# EAGLE library part RTL8201FL-VB-CG (library circuit_tree)
IC
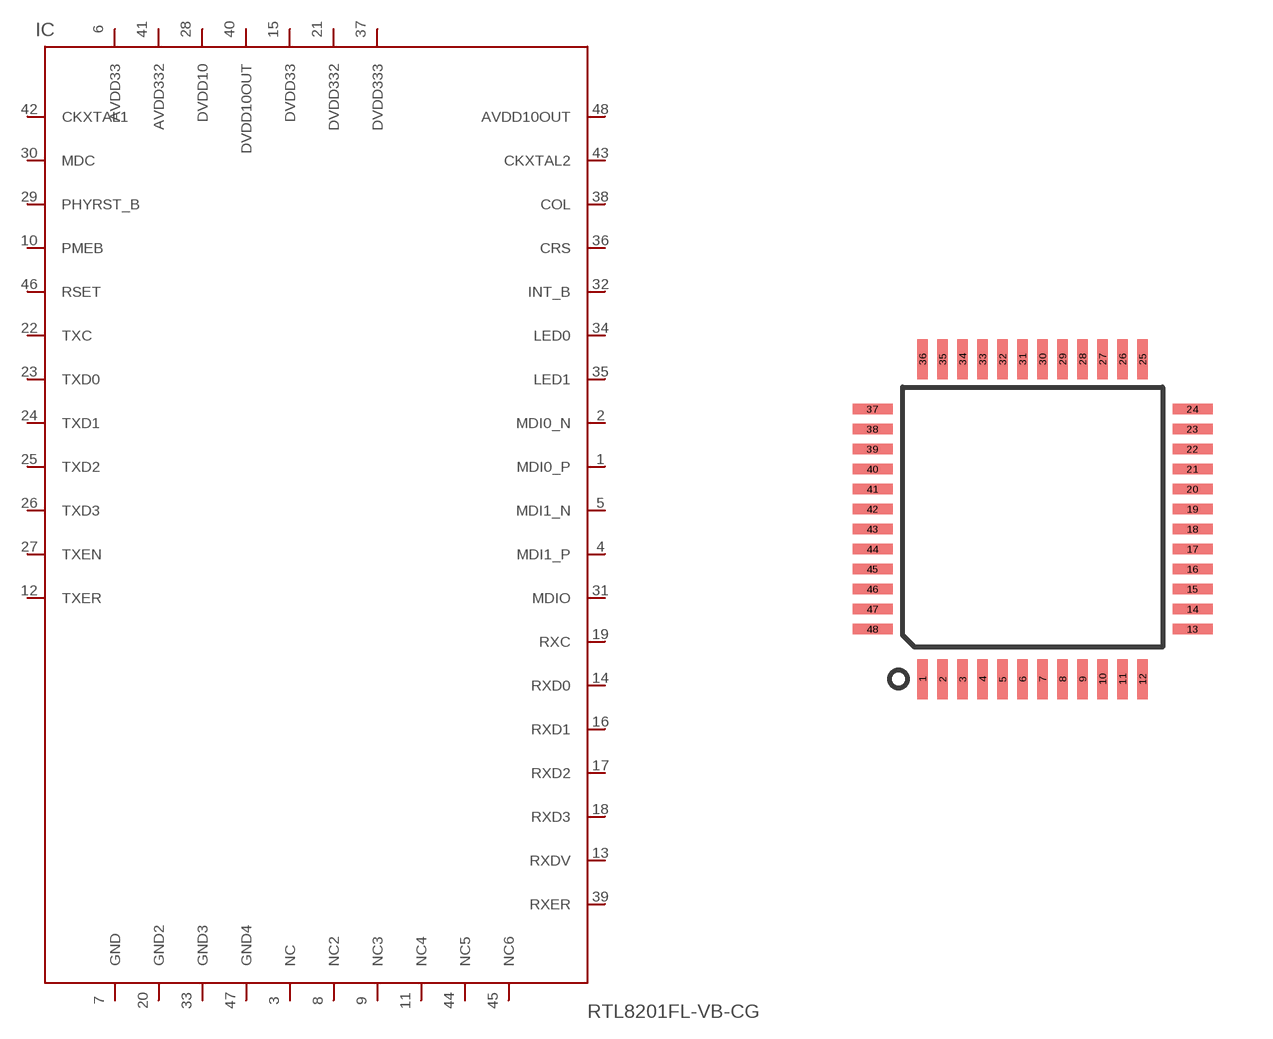
[diagram p9: symbol with the pads of RTL8201FL-VB-CG; footprint RTL8201FL-VB-CG]

Designator prefix IC

## RTL8201FL-VB-CG  [RTL8201FL-VB-CG]
1  MDI0_P  pas
2  MDI0_N  pas
3  NC  pas
4  MDI1_P  pas
5  MDI1_N  pas
6  AVDD33  pas
7  GND  pas
8  NC2  pas
9  NC3  pas
10  PMEB  pas
11  NC4  pas
12  TXER  pas
13  RXDV  pas
14  RXD0  pas
15  DVDD33  pas
16  RXD1  pas
17  RXD2  pas
18  RXD3  pas
19  RXC  pas
20  GND2  pas
21  DVDD332  pas
22  TXC  pas
23  TXD0  pas
24  TXD1  pas
25  TXD2  pas
26  TXD3  pas
27  TXEN  pas
28  DVDD10  pas
29  PHYRST_B  pas
30  MDC  pas
31  MDIO  pas
32  INT_B  pas
33  GND3  pas
34  LED0  pas
35  LED1  pas
36  CRS  pas
37  DVDD333  pas
38  COL  pas
39  RXER  pas
40  DVDD10OUT  pas
41  AVDD332  pas
42  CKXTAL1  pas
43  CKXTAL2  pas
44  NC5  pas
45  NC6  pas
46  RSET  pas
47  GND4  pas
48  AVDD10OUT  pas

## Footprint RTL8201FL-VB-CG (pad centres in mm)
smd 0.27 x 1: 1 0,0; 2 0.5,0; 3 1,0; 4 1.5,0; 5 2,0; 6 2.5,0; 7 3,0; 8 3.5,0; 9 4,0; 10 4.5,0; 11 5,0; 12 5.5,0; 25 5.5,8; 26 5,8; 27 4.5,8; 28 4,8; 29 3.5,8; 30 3,8; 31 2.5,8; 32 2,8; 33 1.5,8; 34 1,8; 35 0.5,8; 36 0,8
smd 1 x 0.27: 13 6.75,1.25; 14 6.75,1.75; 15 6.75,2.25; 16 6.75,2.75; 17 6.75,3.25; 18 6.75,3.75; 19 6.75,4.25; 20 6.75,4.75; 21 6.75,5.25; 22 6.75,5.75; 23 6.75,6.25; 24 6.75,6.75; 37 -1.25,6.75; 38 -1.25,6.25; 39 -1.25,5.75; 40 -1.25,5.25; 41 -1.25,4.75; 42 -1.25,4.25; 43 -1.25,3.75; 44 -1.25,3.25; 45 -1.25,2.75; 46 -1.25,2.25; 47 -1.25,1.75; 48 -1.25,1.25